# Altium footprint library IM 07(AXICOM).PcbLib: 1 footprints
Each footprint in its own frame and in the unit in brackets; x right, y up, seen from the top. Pads: shape width x height; smd on the part's side, far side on the other; paste and mask are expansions set on the pad; w line width, h text height; cw(c..) or ccw(c..) is an arc to the next point about the centre after c.
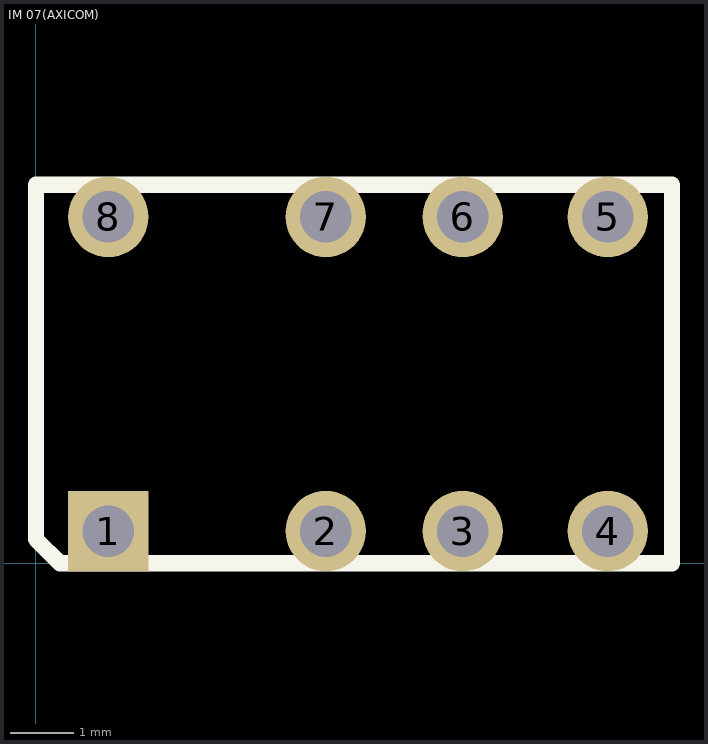
[diagram p0: the footprint, top view; thin cyan lines are the x and y axes]

## IM 07(AXICOM) [mil]
pads (8):
  rect 50x50 hole 32: 1(45,20)
  round 50 hole 32: 2(180,20) 3(265,20) 4(355,20) 5(355,215) 6(265,215) 7(180,215) 8(45,215)
Top Overlay:
  lines w10: 0,15 15,0 395,0 395,235 0,235 0,15
3D body: height 222, standoff 0, extent 0,0 395,235